# Altium schematic symbol library RFtest_2.SCHLIB: 24 symbols
Pins are listed as number, name and electrical type; pins without a type are passive.

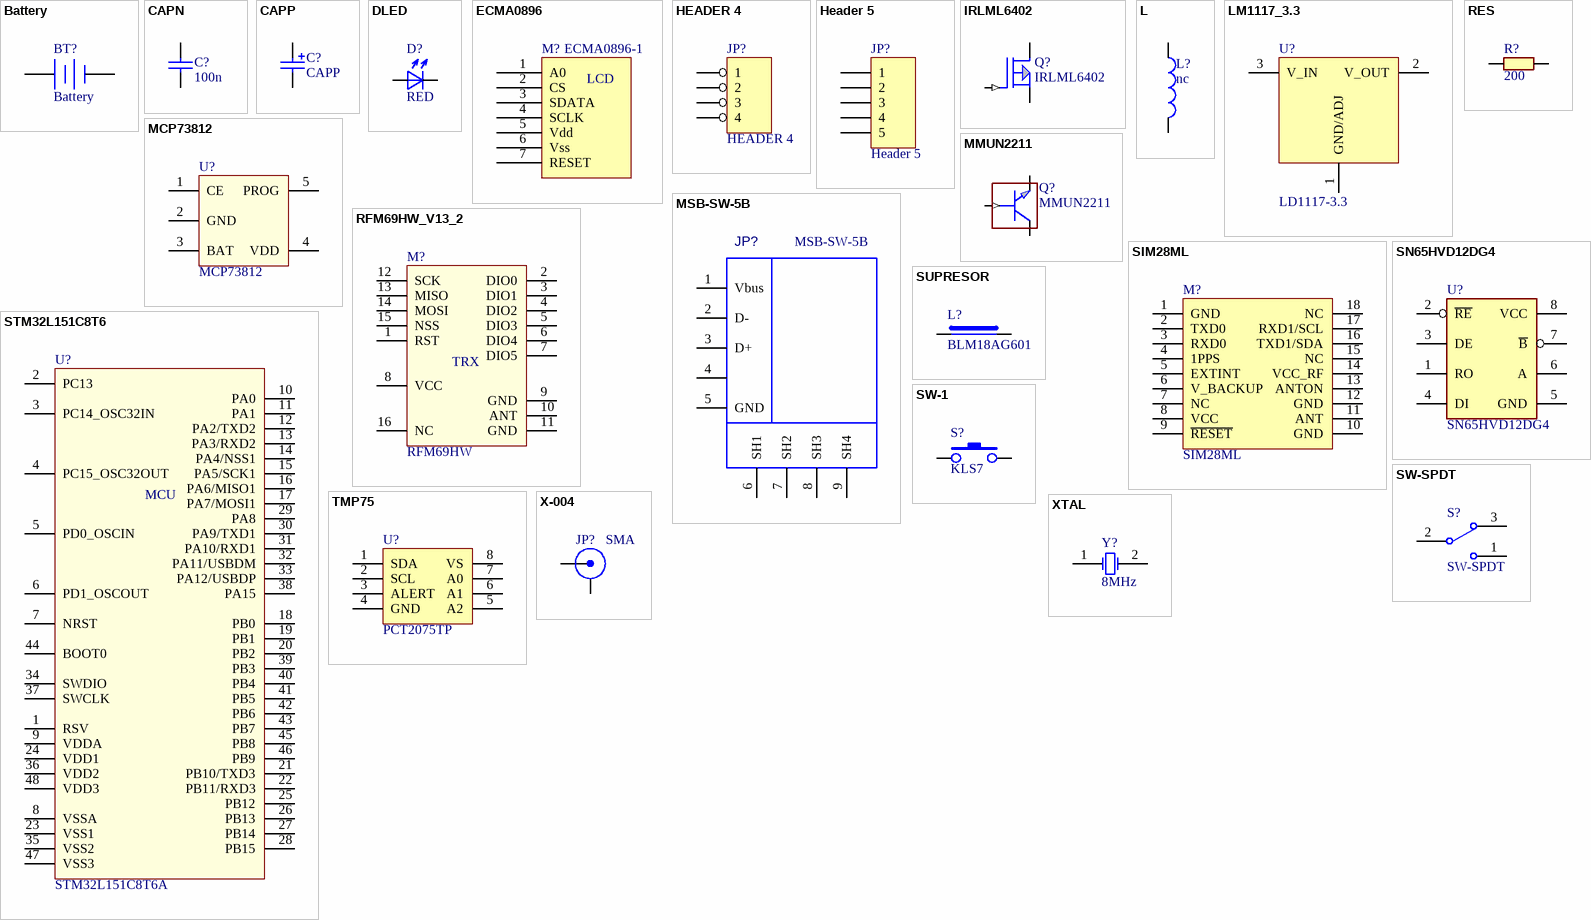
[diagram p0: symbols Battery to XTAL]

## Battery
designator BT?
Multicell Battery; Published: 24-Mar-1999; LatestRevisionDate: 17-Jul-2002; LatestRevisionNote: Re-released for DXP Platform.; PackageReference: BAT-2; Publisher: Altium Limited; PackageDescription: Battery; 2 Leads
footprint BAT-2 (Battery; 2 Leads)
footprint 3AAAHOLDER
footprint 18650
pins: 1 +, 2 -

## CAPN
designator C?, comment 100n
footprint C-0603
footprint C-0805
footprint C-1206
footprint CAPC1608X08N (Chip Capacitor, 2-Leads, Body 1,60x0,80mm, IPC Medium Density)
footprint C-0603 (Chip Capacitor, 2-Leads, Body 1,60x0,80mm, IPC Medium Density)
pins: 1, 2

## CAPP
designator C?
footprint 3216
footprint 3518
footprint 3527
footprint C-TANTAL-B (Capacitor, Polarized, Molded Body; 3.45 mm L X 2.80 mm W X 2.10 mm H body)
pins: 1, 2

## DLED
designator D?, comment RED
footprint LED-0805
footprint LEDC200X125X80L40N (LED, Chip; 2.00 mm L X 1.25 mm W X 0.80 mm H body)
footprint LED_0805 (LED, Chip; 2.00 mm L X 1.25 mm W X 0.80 mm H body)
pins: A 1, K 2

## ECMA0896
designator M?, comment ECMA0896-1
footprint ECMA0896
footprint PLS1-7 (Header, Vertical, 2.54 mm pitch; 0.70 mm lead width, 7 pins, 1 row, 7 pins per row, 16.51 mm L X 2.54 mm W X 7.54 mm H body)
pins: 1 A0, 2 CS, 3 SDATA, 4 SCLK, 5 Vdd, 6 Vss, 7 RESET
text: LCD

## HEADER 4
designator JP?
4 Pin Header; Производитель: *; Допустимая замена: *; Цена: *; PDF файл: *; Температурный диапазон: *; Описание пользователя: *; Конфигурация контактов RxNN: *; *: *
footprint TB-52-4-P
footprint IDC1-4M
footprint 4P4C
footprint PLS1-4 (Header, Vertical, 2.54 mm pitch; 0.70 mm lead width, 4 pins, 1 row, 4 pins per row, 8.89 mm L X 2.54 mm W X 7.54 mm H body)
pins: 1, 2, 3, 4

## Header 5
designator JP?
Header, 5-Pin; LatestRevisionDate: 17-Jul-2002; LatestRevisionNote: Re-released for DXP Platform.; Publisher: Altium Limited
footprint HDR1X5 (Connector; Header; 5 Position)
signal-integrity model Connector
footprint HDRV5W70P254_5X1_1143X254H754 (Header, Vertical, 2.54 mm pitch; 0.70 mm lead width, 5 pins, 1 row, 5 pins per row, 11.43 mm L X 2.54 mm W X 7.54 mm H body)
footprint PLS1-5 (Header, Vertical, 2.54 mm pitch; 0.70 mm lead width, 5 pins, 1 row, 5 pins per row, 11.43 mm L X 2.54 mm W X 7.54 mm H body)
footprint PLS1-5R
pins: 1, 2, 3, 4, 5

## IRLML6402
designator Q?
footprint SOT-23
footprint SOT-323
footprint SOT-428-(D-PAK)
footprint SOT-89
footprint SOT95P245X110-3N (SOT23, 3-Leads, Body 2,90x2,45mm, Pitch 0,95mm, IPC Medium Density)
pins: 1 GATE (in), 2 SOURCE, 3 DRAIN

## L
designator L?, comment nc
footprint L-0805
footprint L-1206
footprint L-1210
footprint L-0603
footprint L-0603 (Chip Inductor, 2-Leads, Body 1,60x0,80mm, IPC Medium Density)
pins: 1, 2

## LM1117_3.3
designator U?, comment LD1117-3.3
Вид: Мікросхема; Тип: LD1117-3.3; Корпус: =Footprint
footprint SOT230P700X180-4N (SOT223, 4-Leads, Body 6,50x7,00mm (avg), Pitch 2,30mm, IPC Medium Density)
pins: 1 GND/ADJ, 2 V_OUT, 3 V_IN

## MCP73812
designator U?
footprint SOT-23-5 (SOT23, 5-Leads, Body 2,90x2,45mm, Pitch 0,95mm, IPC Medium Density)
pins: 1 CE, 2 GND, 3 BAT, 4 VDD, 5 PROG

## MMUN2211
designator Q?
footprint SOT-23
footprint SOT95P245X110-3N (SOT23, 3-Leads, Body 2,90x2,45mm, Pitch 0,95mm, IPC Medium Density)
pins: 1 BASE (in), 2 EMITTER, 3 COLLECTOR

## MSB-SW-5B
designator JP?
Value: MSB-SW-5B
footprint MSB-SW-5B
footprint CU09SAM
pins: 1 Vbus, 2 D-, 3 D+, 4, 5 GND, 6 SH1, 7 SH2, 8 SH3, 9 SH4

## RES
designator R?, comment 200
footprint R-0603
footprint R-0805
footprint R-1206
footprint RESC1005X05N (Chip Resistor, 2-Leads, Body 1,05x0,54mm, IPC Medium Density)
footprint RESC1608X06N (Chip Resistor, 2-Leads, Body 1,60x0,82mm, IPC Medium Density)
footprint RESC2012X07N (Chip Resistor, 2-Leads, Body 2,00x1,25mm, IPC Medium Density)
footprint RESC3216X07N (Chip Resistor, 2-Leads, Body 3,20x1,60mm, IPC Medium Density)
footprint RESC3225X07N (Chip Resistor, 2-Leads, Body 3,20x2,49mm, IPC Medium Density)
footprint RESC1608X06N (Chip Resistor, 2-Leads, Body 1,60x0,82mm, IPC Medium Density)
footprint R-0603 (Chip Resistor, 2-Leads, Body 1,60x0,82mm, IPC Medium Density)
pins: 1, 2

## RFM69HW_V13_2
designator M?, comment RFM69HW
footprint LGA16_RFM69 (LGA, 16-Leads, RFM69HW)
pins: 1 RST, 2 DIO0, 3 DIO1, 4 DIO2, 5 DIO3, 6 DIO4, 7 DIO5, 8 VCC, 9 GND, 10 ANT, 11 GND, 12 SCK, 13 MISO, 14 MOSI, 15 NSS, 16 NC
text: TRX

## SIM28ML
designator M?
footprint LGA18_GNSS (8-Leads, Body 10,10x9,70mm, Pitch 1,10mm)
pins: 1 GND, 2 TXD0, 3 RXD0, 4 1PPS, 5 EXTINT, 6 V_BACKUP, 7 NC, 8 VCC, 9 ~{RESET}, 10 GND, 11 ANT, 12 GND, 13 ANTON, 14 VCC_RF, 15 NC, 16 TXD1/SDA, 17 RXD1/SCL, 18 NC

## SN65HVD12DG4
designator U?
footprint SO8
pins: 1 RO, 2 ~{RE}, 3 DE, 4 DI, 5 GND, 6 A, 7 ~{B}, 8 VCC

## STM32L151C8T6
designator U?, comment STM32L151C8T6A
footprint LQFP-48 (TSQFP, 48-Leads, Body 7,00x7,00mm, Pitch 0,50mm, IPC Medium Density)
pins: 1 RSV, 2 PC13, 3 PC14_OSC32IN, 4 PC15_OSC32OUT, 5 PD0_OSCIN, 6 PD1_OSCOUT, 7 NRST, 8 VSSA, 9 VDDA, 10 PA0, 11 PA1, 12 PA2/TXD2, 13 PA3/RXD2, 14 PA4/NSS1, 15 PA5/SCK1, 16 PA6/MISO1, 17 PA7/MOSI1, 18 PB0, 19 PB1, 20 PB2, 21 PB10/TXD3, 22 PB11/RXD3, 23 VSS1, 24 VDD1, 25 PB12, 26 PB13, 27 PB14, 28 PB15, 29 PA8, 30 PA9/TXD1, 31 PA10/RXD1, 32 PA11/USBDM, 33 PA12/USBDP, 34 SWDIO, 35 VSS2, 36 VDD2, 37 SWCLK, 38 PA15, 39 PB3, 40 PB4, 41 PB5, 42 PB6, 43 PB7, 44 BOOT0, 45 PB8, 46 PB9, 47 VSS3, 48 VDD3
text: MCU

## SUPRESOR
designator L?, comment BLM18AG601
Примечание: *; Производитель: *
footprint L-1210
footprint LEADED
footprint CAPC1005X06N (Chip Capacitor, 2-Leads, Body 1,00x0,50mm, IPC Medium Density)
footprint CAPC1608X08N (Chip Capacitor, 2-Leads, Body 1,60x0,80mm, IPC Medium Density)
footprint CAPC2012X11N (Chip Capacitor, 2-Leads, Body 2,00x1,25mm, IPC Medium Density)
footprint CAPC3216X14N (Chip Capacitor, 2-Leads, Body 3,20x1,60mm, IPC Medium Density)
footprint CAPC3225X14N (Chip Capacitor, 2-Leads, Body 3,20x2,50mm, IPC Medium Density)
footprint CAPC4532X14N (Chip Capacitor, 2-Leads, Body 4,50x3,20mm, IPC Medium Density)
footprint INDC1608X10N (Chip Inductor, 2-Leads, Body 1,60x0,80mm, IPC Medium Density)
footprint L-0603 (Chip Inductor, 2-Leads, Body 1,60x0,80mm, IPC Medium Density)
pins: 1, 2

## SW-1
designator S?, comment KLS7
Вид: Кнопка; Производитель: *; Описание пользователя: *; *: *; Корпус: =Footprint; Тип: KLS7
footprint 7914G
footprint SW-1825027-7
footprint SW-1825027-7
footprint SW-1825027-7
footprint B3U3100SMD
footprint KLS7-TS3602 (miniature switch)
pins: 1, 2

## SW-SPDT
designator S?
SPDT Subminiature Toggle Switch, Right Angle Mounting, Vertical Actuation; Published: 24-Mar-1999; LatestRevisionDate: 17-Dec-2003; LatestRevisionNote: Schematic revised, PCB Footprint replaced.; DatasheetVersion: 05-Dec-2000; PackageReference: TL36WW15050; Publisher: Altium Limited; PackageDescription: Switch; 4 Leads; ComponentLink1Description: Manufacturer Link; ComponentLink1URL: http://www.apem.com
footprint TL36WW15050 (Switch; 4 Leads)
footprint SPDT_100mil
pins: 1, 2, 3

## TMP75
designator U?, comment PCT2075TP
Part Field 1: NXP; Part Field 6: I2C Digital temperature sensor
footprint SOT1069-2
pins: 1 SDA, 2 SCL, 3 ALERT, 4 GND, 5 A2, 6 A1, 7 A0, 8 VS

## X-004
designator JP?, comment SMA
RF Connector; Производитель: *; Допустимая замена: *; Цена: *; PDF файл: *; Температурный диапазон: *; Описание пользователя: *; Конфигурация контактов RxNN: *; *: *
footprint X-004
footprint IMP
footprint ANT-R
footprint S-037
footprint AMPHENOL_132357-11 (SMA End Launch Jack for 1.58mm PCB, 50 Ohm, Flat Tab Contact)
pins: 1 X, 2 Y

## XTAL
designator Y?, comment 8MHz
Crystal Oscillator; Published: 8-Jun-2000; LatestRevisionDate: 17-Jul-2002; LatestRevisionNote: Re-released for DXP Platform.; PackageReference: R38; Publisher: Altium Limited; PackageDescription: Crystal, Thru-Hole; 2 Leads; Body 3.1 x 8.2 mm (Dia.xH)
footprint R38 (Crystal, Thru-Hole; 2 Leads; Body 3.1 x 8.2 mm (Dia.xH))
simulation model XTAL (Spice Subcircuit)
footprint HC49_3.5mm (Crystal, HC-49; 4.88 mm C X 0.43 mm W 11.175 mm L X 4.75 mm T X 3.50 mm H body)
pins: 1 OSC1, 2 OSC2